# EAGLE library part BTT6*-? (library PROFET - Infineon)
PROFET+24V Automotive Smart High Side Switch with Current Sense 1 and 2 channel variants AEC-Q100 universal symbol which allows both single channel and dual channel variants PROFET™ + 24V | Automotive Smart High-Side Switch <https://www.infineon.com/cms/en/product/power/smart-low-side-high-side-switches/high-side-switches/profet-plus-24v-automotive-smart-high-side-switch/>
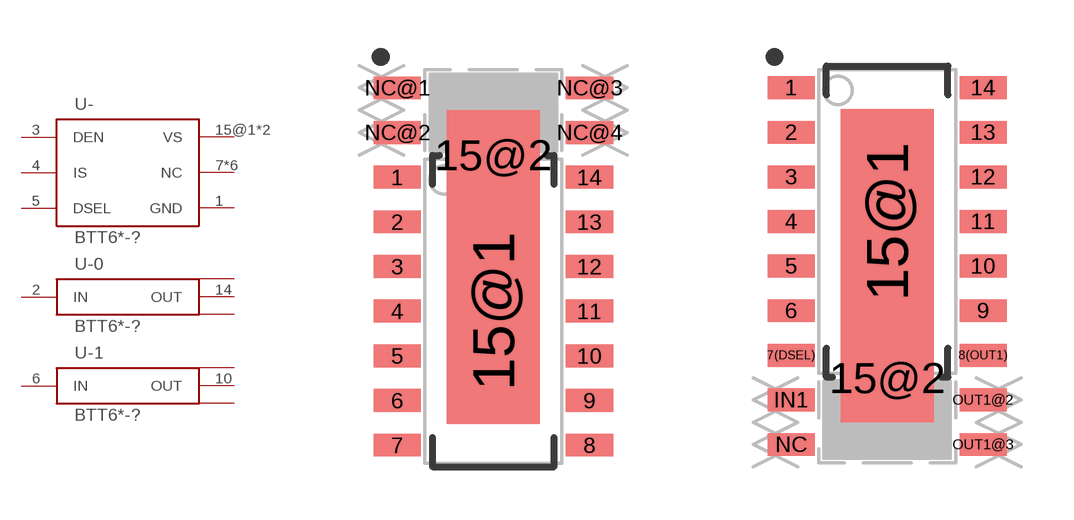
[diagram p86: symbol with the pads of PG-TDSO-14-PROFET-MULTI-DEV-2CH; footprints PG-TDSO-14-PROFET-MULTI-DEV-2CH, PG-TDSO-14-PROFET-MULTI-DEV-1CH]

Designator prefix U; gates -0=BTT6XXX-1/2 -1=BTT6XXX-1/2 -=BTT6XXX-0

## BTT6030-2ERA (MFG: Infineon; MPN: BTT6030-2ERAXUMA1; PACKAGE: PG-DSO-14-47-EP; SIZE: 14-SOIC; VALUE: BTT6030-2), BTT6050-2ERA (MFG: Infineon; MPN: BTT6050-2ERAXUMA1; PACKAGE: PG-DSO-14-47-EP; SIZE: 14-SOIC; VALUE: BTT6050-2), BTT6100-2ERA (MFG: Infineon; MPN: BTT6100-2ERAXUMA1; PACKAGE: PG-DSO-14-47-EP; SIZE: 14-SOIC; VALUE: BTT6100-2)  [PG-TDSO-14-PROFET-MULTI-DEV-2CH]
1  -:GND  pwr
2  -0:IN  in
3  -:DEN  in
4  -:IS  out
5  -:DSEL  in
6  -1:IN  in
7  -:NC  nc
8  -1:OUT  out
9  -1:OUT  out
10  -1:OUT  out
11  -:NC  nc
12  -0:OUT  out
13  -0:OUT  out
14  -0:OUT  out
15@1  -:VS  sup
15@2  -:VS  sup
NC@1  -:NC  nc
NC@2  -:NC  nc
NC@3  -:NC  nc
NC@4  -:NC  nc

## BTT6010-1ERA (MFG: Infineon; MPN: BTT6010-1ERAXUMA1; PACKAGE: PG-TDSO-14-11; SIZE: 14-SOIC; VALUE: BTT6010-1), BTT6020-1ERA (MFG: Infineon; MPN: BTT6020-1ERAXUMA1; PACKAGE: PG-TDSO-14-11; SIZE: 14-SOIC; VALUE: BTT6020-1), BTT6030-1ERA (MFG: Infineon; MPN: BTT6030-1ERAXUMA1; PACKAGE: PG-TDSO-14-11; SIZE: 14-SOIC; VALUE: BTT6030-1), BTT6050-1ERA (MFG: Infineon; MPN: BTT6050-1ERAXUMA1; PACKAGE: PG-TDSO-14-11; SIZE: 14-SOIC; VALUE: BTT6050-1)  [PG-TDSO-14-PROFET-MULTI-DEV-1CH]
1  -:NC  nc
2  -:NC  nc
3  -:GND  pwr
4  -0:IN  in
5  -:DEN  in
6  -:IS  out
7(DSEL)  -:DSEL  in
8(OUT1)  -1:OUT  out
9  -:NC  nc
10  -0:OUT  out
11  -0:OUT  out
12  -0:OUT  out
13  -:NC  nc
14  -:NC  nc
15@1  -:VS  sup
15@2  -:VS  sup
IN1  -1:IN  in
NC  -:NC  nc
OUT1@2  -1:OUT  out
OUT1@3  -1:OUT  out

## Footprint PG-TDSO-14-PROFET-MULTI-DEV-2CH (pad centres in mm)
Original name SOIC127P600X115-15N-V1 Max Component Height - 1.15mm
smd 1.34 x 0.65: 1 -2.73,2.54; 2 -2.73,1.27; 3 -2.73,0; 4 -2.73,-1.27; 5 -2.73,-2.54; 6 -2.73,-3.81; 7 -2.73,-5.08; 8 2.73,-5.08; 9 2.73,-3.81; 10 2.73,-2.54; 11 2.73,-1.27; 12 2.73,0; 13 2.73,1.27; 14 2.73,2.54; NC@1 -2.73,5.08; NC@2 -2.73,3.81; NC@3 2.73,5.08; NC@4 2.73,3.81
smd 2.65 x 6.4: 15@1 0,-1.27
smd 2.65 x 2.54: 15@2 0,3.175

## Footprint PG-TDSO-14-PROFET-MULTI-DEV-1CH (pad centres in mm)
Original name SOIC127P600X115-15N-V1 Max Component Height - 1.15mm
smd 1.34 x 0.65: 1 -2.73,5.08; 2 -2.73,3.81; 3 -2.73,2.54; 4 -2.73,1.27; 5 -2.73,0; 6 -2.73,-1.27; 7(DSEL) -2.73,-2.54; 8(OUT1) 2.73,-2.54; 9 2.73,-1.27; 10 2.73,0; 11 2.73,1.27; 12 2.73,2.54; 13 2.73,3.81; 14 2.73,5.08; IN1 -2.73,-3.81; NC -2.73,-5.08; OUT1@2 2.73,-3.81; OUT1@3 2.73,-5.08
smd 2.65 x 6.4: 15@1 0,1.27
smd 2.65 x 2.54: 15@2 0,-3.175